# EAGLE library part KM48C512 (library Custom)
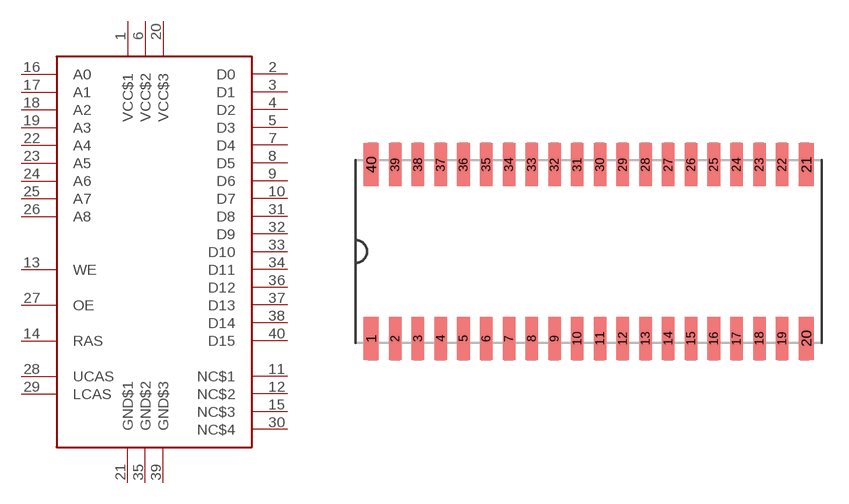
[diagram p3: symbol with the pads of SOT449; footprint SOT449]

Designator prefix -

## KM48C512  [SOT449]
1  VCC$1
2  D0
3  D1
4  D2
5  D3
6  VCC$2
7  D4
8  D5
9  D6
10  D7
11  NC$1
12  NC$2
13  WE
14  RAS
15  NC$3
16  A0
17  A1
18  A2
19  A3
20  VCC$3
21  GND$1
22  A4
23  A5
24  A6
25  A7
26  A8
27  OE
28  UCAS
29  LCAS
30  NC$4
31  D8
32  D9
33  D10
34  D11
35  GND$2
36  D12
37  D13
38  D14
39  GND$3
40  D15

## Footprint SOT449 (pad centres in mm)
SOT449 SOJ40: plastic small outline package; 40 leads (J-bent); body width 10.16 mm JEDEC: MS-027 IEC: --
smd 0.85 x 2.4: 1 -12.14,-4.85; 20 12.14,-4.85; 21 12.14,4.85; 40 -12.14,4.85
smd 0.7 x 2.4: 2 -10.795,-4.85; 3 -9.525,-4.85; 4 -8.255,-4.85; 5 -6.985,-4.85; 6 -5.715,-4.85; 7 -4.445,-4.85; 8 -3.175,-4.85; 9 -1.905,-4.85; 10 -0.635,-4.85; 11 0.635,-4.85; 12 1.905,-4.85; 13 3.175,-4.85; 14 4.445,-4.85; 15 5.715,-4.85; 16 6.985,-4.85; 17 8.255,-4.85; 18 9.525,-4.85; 19 10.795,-4.85; 22 10.795,4.85; 23 9.525,4.85; 24 8.255,4.85; 25 6.985,4.85; 26 5.715,4.85; 27 4.445,4.85; 28 3.175,4.85; 29 1.905,4.85; 30 0.635,4.85; 31 -0.635,4.85; 32 -1.905,4.85; 33 -3.175,4.85; 34 -4.445,4.85; 35 -5.715,4.85; 36 -6.985,4.85; 37 -8.255,4.85; 38 -9.525,4.85; 39 -10.795,4.85